# Altium footprint library DIP SWITCH.PcbLib: 5 footprints
Each footprint in its own frame and in the unit in brackets; x right, y up, seen from the top. Pads: shape width x height; smd on the part's side, far side on the other; paste and mask are expansions set on the pad; w line width, h text height; cw(c..) or ccw(c..) is an arc to the next point about the centre after c.
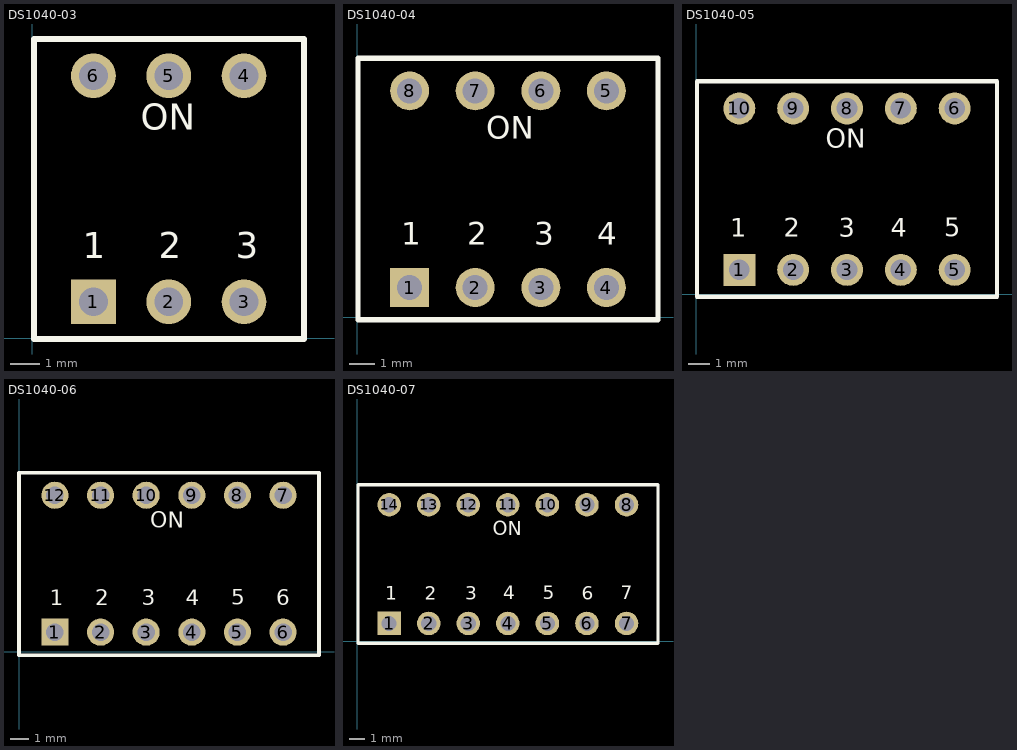
[diagram p0: the footprints below, top view; thin cyan lines are the x and y axes]

## DS1040-03 [mm]
pads (6):
  rect 1.509x1.509 hole 0.97: 1(2.059,1.226)
  round 1.509 hole 0.97: 2(4.599,1.226) 3(7.139,1.226) 4(7.139,8.846) 5(4.599,8.846) 6(2.059,8.846)
Top Overlay:
  lines w0.2: 0.059,-0.031 0.059,10.088 9.159,10.088 9.159,-0.031 0.059,-0.031
  text "ON" at 3.659,6.744 h1.5
  text "1" at 1.7,2.4 h1.5
  text "2" at 4.259,2.4 h1.5
  text "3" at 6.859,2.4 h1.5
Mechanical 15:
  lines w0.1: 0.059,-0.029 0.059,10.081 9.159,10.081 9.159,-0.029 0.059,-0.029
3D body "DS1040-03RT.STEP": height 8.55, standoff -4.1, extent 0.079,-1.474 9.159,9.926

## DS1040-04 [mil]
pads (8):
  rect 59.41x59.41 hole 38.19: 1(80,45)
  round 59.41 hole 38.19: 2(180,45) 3(280,45) 4(380,45) 5(380,345) 6(280,345) 7(180,345) 8(80,345)
Top Overlay:
  lines w7.87: 1.26,-4.27 1.26,394.69 458.74,394.69 458.74,-4.27 1.26,-4.27
  text "4" at 366.1,98.48 h59.06
  text "1" at 66.93,98.43 h59.06
  text "2" at 167.68,98.43 h59.06
  text "3" at 270.04,98.43 h59.06
  text "ON" at 196.85,260.55 h59.06
Mechanical 15:
  lines w3.94: 1.26,-3.85 1.26,394.44 458.74,394.44 458.74,-3.85 1.26,-3.85
3D body "DS1040-04RT.STEP": height 336.46, standoff -161.57, extent 2.52,-63.46 460,385.35

## DS1040-05 [mil]
pads (10):
  rect 59.41x59.41 hole 38.19: 1(80,45)
  round 59.41 hole 38.19: 2(180,45) 3(280,45) 4(380,45) 5(480,45) 6(480,345) 7(380,345) 8(280,345) 9(180,345) 10(80,345)
Top Overlay:
  lines w7.87: 1.26,-4.87 558.74,-4.87 558.74,395.49 1.26,395.49 1.26,-4.87
  text "ON" at 240.16,259.84 h60
  text "3" at 265.04,94.49 h59.06
  text "2" at 162.68,94.49 h59.06
  text "1" at 62.99,94.49 h59.06
  text "4" at 361.1,94.54 h59.06
  text "5" at 461.1,95.2 h59.06
Mechanical 15:
  lines w3.94: 1.26,-4.87 558.74,-4.87 558.74,395.49 1.26,395.49 1.26,-4.87
3D body "DS1040-05RT.STEP": height 331.46, standoff -166.57, extent 1.26,-58.82 558.74,390

## DS1040-06 [mm]
pads (12):
  rect 1.509x1.509 hole 0.97: 1(2,1.1)
  round 1.509 hole 0.97: 2(4.54,1.1) 3(7.08,1.1) 4(9.62,1.1) 5(12.16,1.1) 6(14.7,1.1) 7(14.7,8.72) 8(12.16,8.72) 9(9.62,8.72) 10(7.08,8.72) 11(4.54,8.72) 12(2,8.72)
Top Overlay:
  lines w0.2: 0,-0.187 16.7,-0.187 16.7,9.976 0,9.976 0,-0.187
  text "ON" at 7.3,6.6 h1.52
  text "6" at 14.312,2.3 h1.5
  text "3" at 6.832,2.3 h1.5
  text "2" at 4.232,2.3 h1.5
  text "1" at 1.7,2.3 h1.5
  text "4" at 9.272,2.301 h1.5
  text "5" at 11.812,2.318 h1.5
Mechanical 15:
  lines w0.1: 0,-0.182 16.7,-0.182 16.7,9.973 0,9.973 0,-0.182
3D body "DS1040-06RT.STEP": height 8.42, standoff -4.23, extent -0.05,-1.55 16.65,9.85

## DS1040-07 [mm]
pads (14):
  rect 1.509x1.509 hole 0.97: 1(2.039,1.153)
  round 1.509 hole 0.97: 2(4.579,1.153) 3(7.119,1.153) 4(9.659,1.153) 5(12.199,1.153) 6(14.739,1.153) 7(17.279,1.153) 8(17.279,8.773) 9(14.739,8.773) 10(12.199,8.773) 11(9.659,8.773) 12(7.119,8.773) 13(4.579,8.773) 14(2.039,8.773)
Top Overlay:
  lines w0.2: 0.039,-0.116 19.3,-0.116 19.3,10.055 0.039,10.055 0.039,-0.116
  text "ON" at 8.7,6.5 h1.52
  text "5" at 11.912,2.418 h1.5
  text "4" at 9.372,2.401 h1.5
  text "1" at 1.8,2.4 h1.5
  text "2" at 4.332,2.4 h1.5
  text "3" at 6.932,2.4 h1.5
  text "6" at 14.412,2.4 h1.5
  text "7" at 16.911,2.418 h1.5
Mechanical 15:
  lines w0.1: 0.039,-0.113 19.3,-0.113 19.3,10.049 0.039,10.049 0.039,-0.113
3D body "DS1040-07RT.STEP": height 8.42, standoff -4.23, extent 0.06,-1.5 19.3,9.9